# Altium schematic symbol library yakimenko_power_control_lib.SchLib: 2 symbols
Pins are listed as number, name and electrical type; pins without a type are passive.

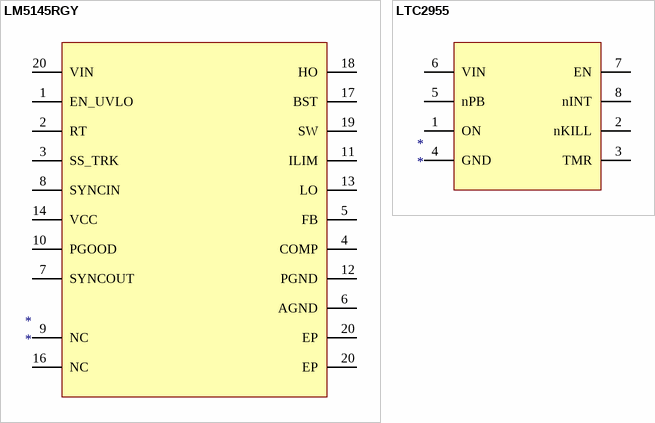
[diagram p0: symbols LM5145RGY to LTC2955]

## LM5145RGY
designator *
pins: 1 EN_UVLO, 2 RT, 3 SS_TRK, 4 COMP, 5 FB, 6 AGND, 7 SYNCOUT, 8 SYNCIN, 9 NC, 10 PGOOD, 11 ILIM, 12 PGND, 13 LO, 14 VCC, 16 NC, 17 BST, 18 HO, 19 SW, 20 VIN, 20 EP, 20 EP

## LTC2955
designator *
pins: 1 ON, 2 nKILL, 3 TMR, 4 GND, 5 nPB, 6 VIN, 7 EN, 8 nINT